# Altium footprint library SOD-923_0.8x0.6x0.7.PcbLib: 1 footprints
Each footprint in its own frame and in the unit in brackets; x right, y up, seen from the top. Pads: shape width x height; smd on the part's side, far side on the other; paste and mask are expansions set on the pad; w line width, h text height; cw(c..) or ccw(c..) is an arc to the next point about the centre after c.
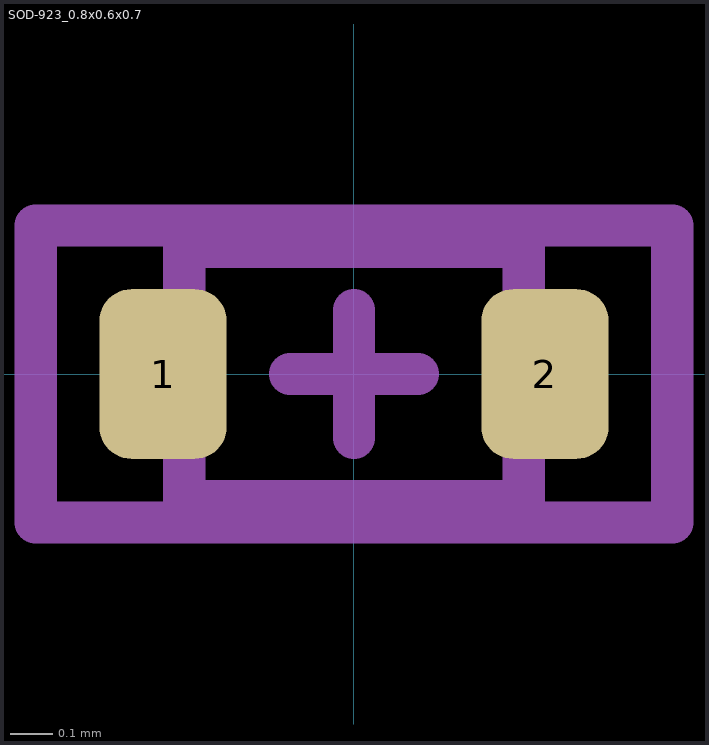
[diagram p0: the footprint, top view; thin cyan lines are the x and y axes]

## SOD-923_0.8x0.6x0.7 [mm]
pads (2):
  rrect50% 0.3x0.4 smd: 1(-0.45,0) 2(0.45,0)
Mechanical 13:
  lines w0.1: -0.4,-0.3 -0.4,0.3 0.4,0.3 0.4,-0.3 -0.4,-0.3
Mechanical 15:
  lines w0.1: -0.15,0 0.15,0 ; 0,-0.15 0,0.15 ; -0.75,-0.35 -0.75,0.35 0.75,0.35 0.75,-0.35 -0.75,-0.35
3D body: height 0.12, standoff 0, extent 0.4,-0.1 0.5,0.1
3D body: height 0.12, standoff 0, extent -0.5,-0.1 -0.4,0.1
3D body: height 0.37, standoff 0, extent -0.4,-0.3 0.4,0.3